# Altium footprint library Tyco 338068-6.PcbLib: 1 footprints
Each footprint in its own frame and in the unit in brackets; x right, y up, seen from the top. Pads: shape width x height; smd on the part's side, far side on the other; paste and mask are expansions set on the pad; w line width, h text height; cw(c..) or ccw(c..) is an arc to the next point about the centre after c.
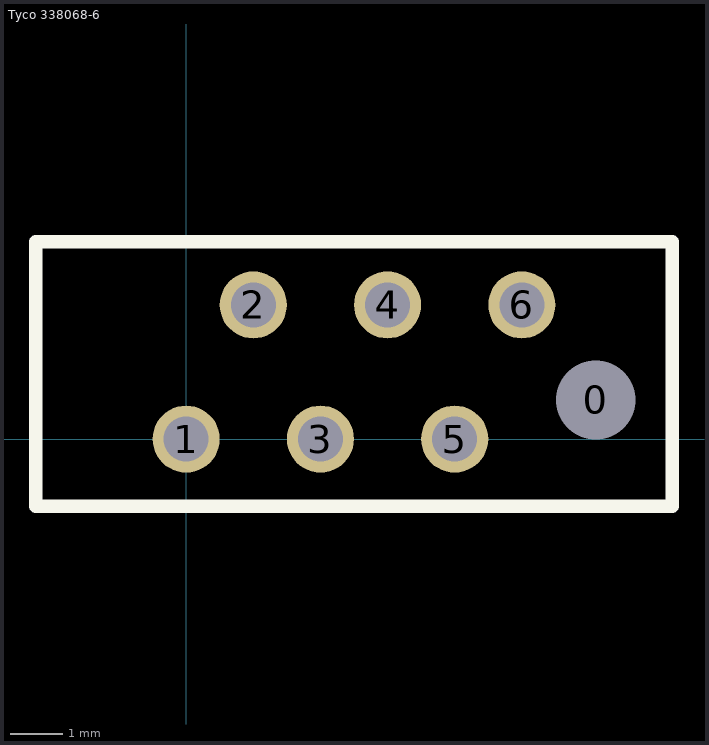
[diagram p0: the footprint, top view; thin cyan lines are the x and y axes]

## Tyco 338068-6 [mm] "6 position Micro-MaTch receptacle."
pads (7):
  round 1.27 hole 1.5: 0(7.75,0.74)
  round 1.27 hole 0.85: 1(0,0) 2(1.27,2.54) 3(2.54,0) 4(3.81,2.54) 5(5.08,0) 6(6.35,2.54)
Top Overlay:
  lines w0.254: -2.845,-1.27 -2.845,3.734 9.195,3.734 9.195,-1.27 -2.845,-1.27
3D body: height 4, standoff -3.1, extent -2.87,-1.255 9.22,3.745